# EAGLE library part UM232R-G (library 00_koarl-div)
DLP-USB232M-G USB - SERIAL UART Interface Module Source: http://www.ftdichip.com/Documents/DataSheets/DLP/dlp-usb232m15.pdf
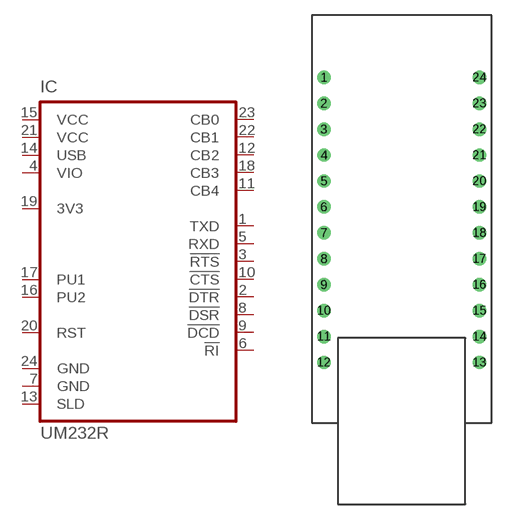
[diagram p6: symbol with the pads of UM232R-MODUL; footprint UM232R-MODUL]

Designator prefix IC

## UM232R-G  [UM232R-MODUL]
1  TXD  out
2  !DTR  out
3  !RTS  out
4  VIO  pwr
5  RXD  in
6  !RI  in
7  GND  in
8  !DSR  in
9  !DCD  in
10  !CTS  in
11  CB4
12  CB2
13  SLD  in
14  USB  pwr
15  VCC
16  PU2  in
17  PU1  in
18  CB3
19  3V3  pwr
20  RST  in
21  VCC
22  CB1
23  CB0
24  GND  in

## Footprint UM232R-MODUL (pad centres in mm)
DLP-USB232M-G USB - SERIAL UART Interface Module Source: http://www.ftdichip.com/Documents/DataSheets/DLP/dlp-usb232m15.pdf
drill 0.8 pad 1.27: 1 -7.62,27.94; 2 -7.62,25.4; 3 -7.62,22.86; 4 -7.62,20.32; 5 -7.62,17.78; 6 -7.62,15.24; 7 -7.62,12.7; 8 -7.62,10.16; 9 -7.62,7.62; 10 -7.62,5.08; 11 -7.62,2.54; 12 -7.62,0; 13 7.62,0; 14 7.62,2.54; 15 7.62,5.08; 16 7.62,7.62; 17 7.62,10.16; 18 7.62,12.7; 19 7.62,15.24; 20 7.62,17.78; 21 7.62,20.32; 22 7.62,22.86; 23 7.62,25.4; 24 7.62,27.94